# Altium schematic symbol library Schematic_LIb.SchLib: 25 symbols
Pins are listed as number, name and electrical type; pins without a type are passive.

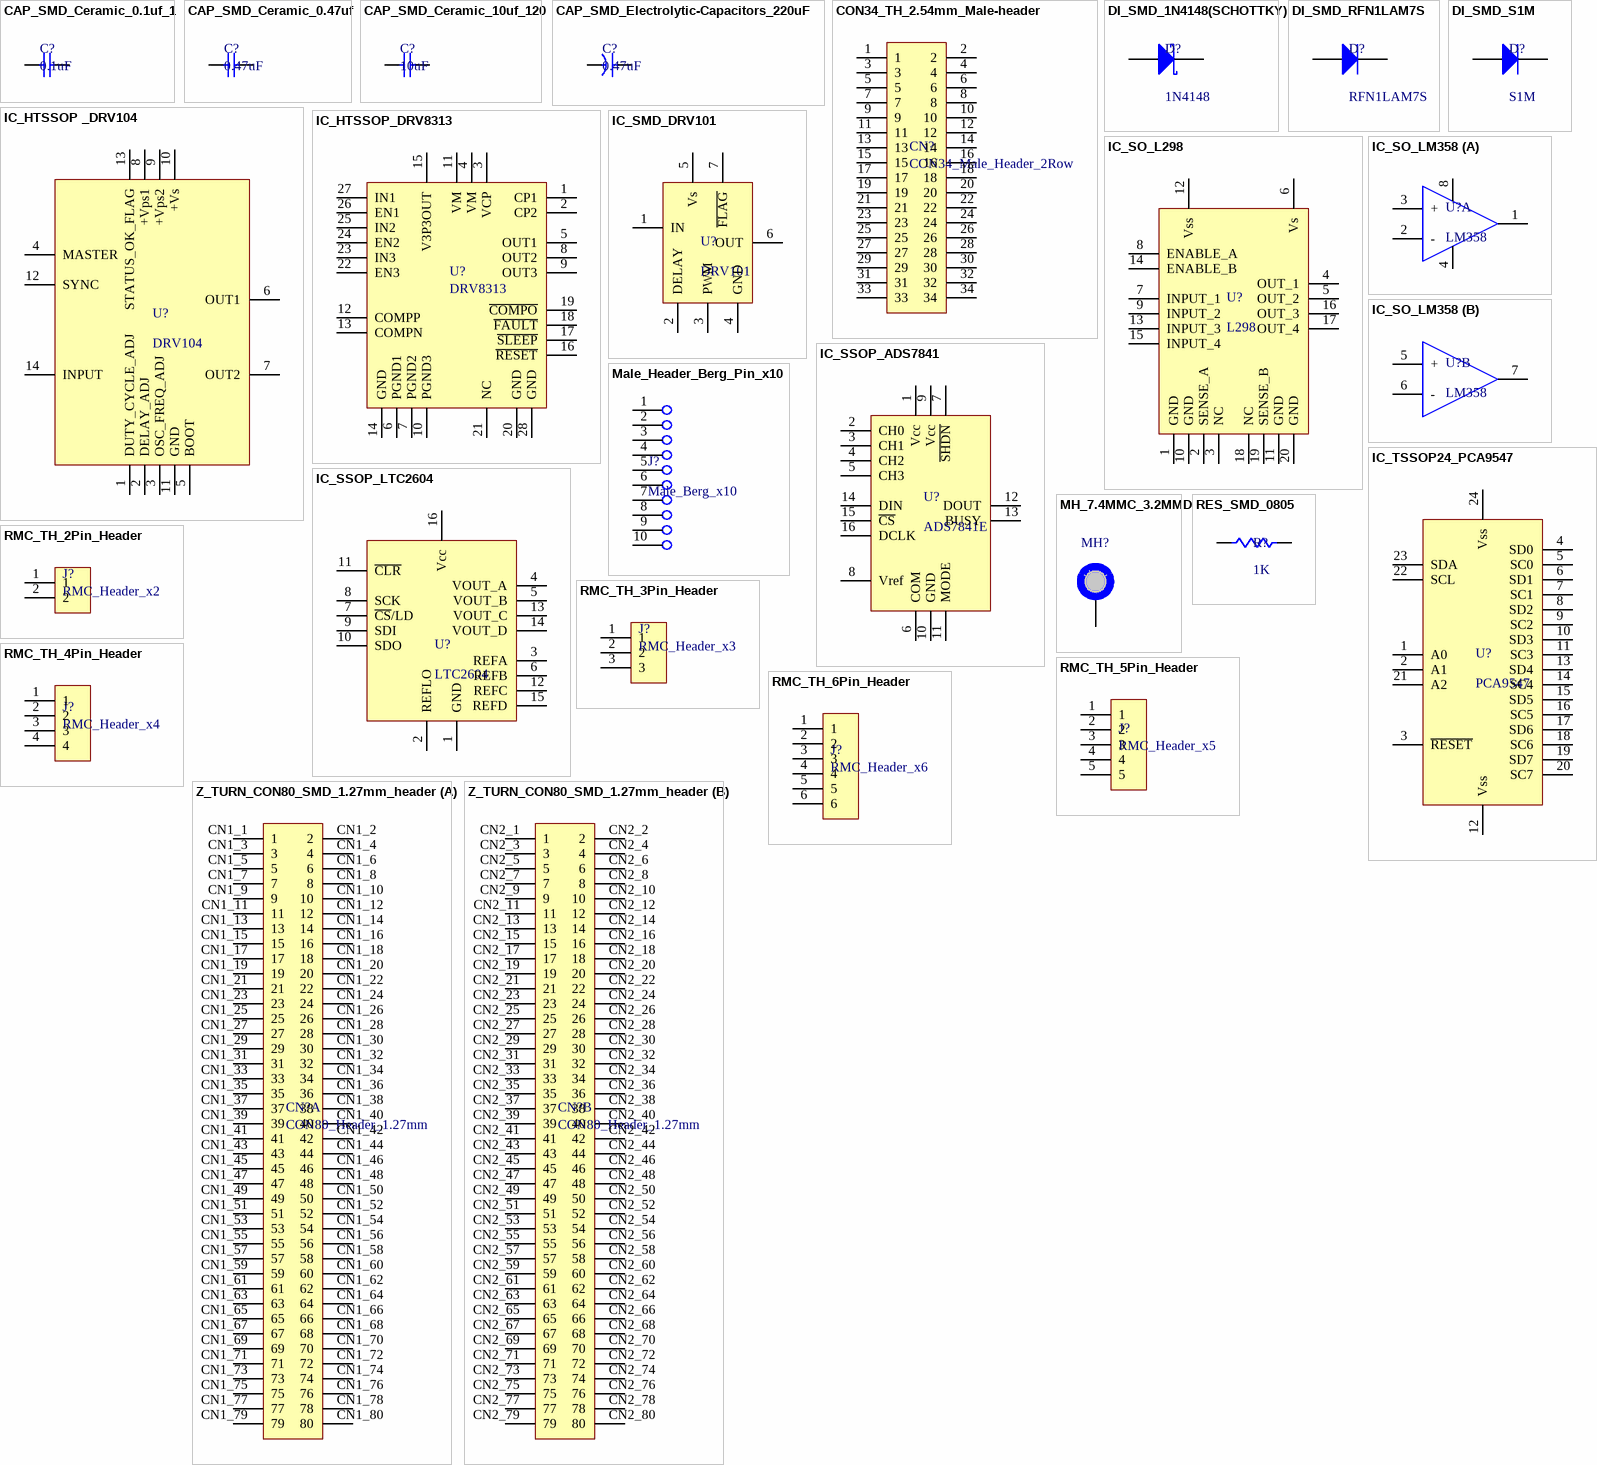
[diagram p0: symbols CAP_SMD_Ceramic_0.1uf_1 to Z_TURN_CON80_SMD_1.27mm_header]

## CAP_SMD_Ceramic_0.1uf_1
designator C?, comment 0.1uF
0.1µF ±20% 6.3V Ceramic Capacitor X5R 0201 (0603 Metric); Manufacturer: Vishay Vitramon; Manufacturer Part Number: VJ0201G104MXYCW1BC; Case / Package: SMD
footprint CAPC_SMD_0603 (Chip Capacitor, 2-Leads, Body 1.60x0.80mm, IPC Low Density)
pins: 1, 2

## CAP_SMD_Ceramic_0.47uf
designator C?, comment 0.47uF
0.47µF ±10% 6.3V Ceramic Capacitor X5R 0201 (0603 Metric); Case / Package: SMD; Manufacturer: *; Manufacturer Part Number: *
footprint CAPC_SMD_0805 (Chip Capacitor, 2-Leads, Body 2.00x1.25mm, IPC Low Density)
pins: 1, 2

## CAP_SMD_Ceramic_10uf_120
designator C?, comment 10uF
10µF ±20% 16V Ceramic Capacitor X5R 1210 (1210 Metric); Manufacturer: KEMET; Manufacturer Part Number: C1206C106K4RACTU; Case / Package: SMD
footprint CAP_SMD_1210 (Chip Capacitor, 2-Leads, Body 3.20x2.50mm, IPC Low Density)
pins: 1, 2

## CAP_SMD_Electrolytic-Capacitors_220uF
designator C?, comment 0.47uF
220µF 35V Aluminum Electrolytic Capacitors Radial, Can - SMD  7000 Hrs @ 105°C; Manufacturer: Nichicon; Manufacturer Part Number: UCW1V221MNL1GS; Case / Package: SMD
footprint CAPEL_SMD_220uF (Aluminum Electrolytic Capacitor, Body 8.30x8.30x10.30mm, IPC Low Density)
pins: 1, 2

## CON34_TH_2.54mm_Male-header
designator CN?, comment CON34_Male_Header_2Row
Connector Header Through Hole 34 position 0.100" (2.54mm); Manufacturer: Amphenol ICC (FCI); Manufacturer Part Number: 67997-234HLF; Case / Package: Through Hole
footprint CON34_TH (43.1mm)
pins: 1, 2, 3, 4, 5, 6, 7, 8, 9, 10, 11, 12, 13, 14, 15, 16, 17, 18, 19, 20, 21, 22, 23, 24, 25, 26, 27, 28, 29, 30, 31, 32, 33, 34

## DI_SMD_1N4148(SCHOTTKY)
designator D?, comment 1N4148
Diode Standard 75V 150mA Surface Mount SOD-323F; Case / Package: Surface Mount; Manufacturer: *; Manufacturer Part Number: *
pins: 1 A, 2 K

## DI_SMD_RFN1LAM7S
designator D?, comment RFN1LAM7S
Diodes - General Purpose, Power, Switching 600V Vr 0.8A Io Fast Recovery Diode; Manufacturer: ROHM Semiconductor; Manufacturer Part Number: RFN1LAM7STR; Case / Package: SMD
footprint DIOM_L3.7mm_W2.5mm_H0.95mm (RFN1LAM7S)
pins: 1 A, 2 K

## DI_SMD_S1M
designator D?, comment S1M
Diode Standard 1000V 1A Surface Mount SMA (DO-214AC); Manufacturer: ON Semiconductor; Case / Package: SMD; Manufacturer Part Number: S1M
footprint S1M_SMD (Molded Diode, 2-Leads, Body 4.38x2.73mm, IPC Low Density)
pins: 1 A, 2 K

## IC_HTSSOP _DRV104
designator U?, comment DRV104
Power Switch/Driver 1:1  1.2A 14-HTSSOP; Manufacturer: Texas Instruments; Manufacturer Part Number: DRV104PWPR; Case / Package: HTSSOP
footprint DRV104_HTSSOP (TSOP, 14-Leads, Body 5.00x4.40mm, Pitch 0.65mm, Thermal Pad 5.00x3.40mm, IPC Low Density)
pins: 1 DUTY_CYCLE_ADJ, 2 DELAY_ADJ, 3 OSC_FREQ_ADJ, 4 MASTER, 5 BOOT, 6 OUT1, 7 OUT2, 8 +Vps1, 9 +Vps2, 10 +Vs, 11 GND, 12 SYNC, 13 STATUS_OK_FLAG, 14 INPUT

## IC_HTSSOP_DRV8313
designator U?, comment DRV8313
Motor Driver Power MOSFET Parallel 28-HTSSOP; Manufacturer: *; Manufacturer Part Number: *; Case / Package: 28-HTSSOP
footprint DRV8313_TO9.7mm4.4mmX1.2mm (TSOP, 28-Leads, Body 9.70x4.40mm, Pitch 0.65mm, Thermal Pad 9.70x3.40mm, IPC Low Density)
pins: 1 CP1, 2 CP2, 3 VCP, 4 VM, 5 OUT1, 6 PGND1, 7 PGND2, 8 OUT2, 9 OUT3, 10 PGND3, 11 VM, 12 COMPP, 13 COMPN, 14 GND, 15 V3P3OUT, 16 ~{RESET}, 17 ~{SLEEP}, 18 ~{FAULT}, 19 ~{COMPO}, 20 GND, 21 NC, 22 EN3, 23 IN3, 24 EN2, 25 IN2, 26 EN1, 27 IN1, 28 GND

## IC_SMD_DRV101
designator U?, comment DRV101
Power Switch/Driver 1:1 Bipolar 1.9A DDPAK/TO-263-7; Manufacturer: Texas Instruments; Manufacturer Part Number: DRV101FKTWT; Case / Package: Surface Mount
footprint DRV101_SMD (D2-PAK, 8-Pads, Body 7.80x8.57mm (max), IPC Medium Density)
pins: 1 IN, 2 DELAY, 3 PWM, 4 GND, 5 Vs, 6 OUT, 7 ~{FLAG}

## IC_SO_L298
designator U?, comment L298
Half Bridge (4) Driver DC Motors, Relays, Solenoids, Stepper Motors Bipolar PowerSO-20; Manufacturer: STMicroelectronics; Manufacturer Part Number: L298P013TR; Case / Package: 20-SOIC
footprint L298N_SOP (SOP, 20-Leads, Body 15.90x11.00mm, Pitch 1.27mm, Thermal Pad 16.00x6.20mm, IPC Medium Density)
pins: 1 GND, 2 SENSE_A, 3 NC, 4 OUT_1, 5 OUT_2, 6 Vs, 7 INPUT_1, 8 ENABLE_A, 9 INPUT_2, 10 GND, 11 GND, 12 Vss, 13 INPUT_3, 14 ENABLE_B, 15 INPUT_4, 16 OUT_3, 17 OUT_4, 18 NC, 19 SENSE_B, 20 GND

## IC_SO_LM358
designator U?, comment LM358
General Purpose Amplifier 2 Circuit  8-SOIC; Manufacturer: Texas Instruments; Manufacuturer Part Number: LM358DR; Case / Package: 8-SOIC
footprint LM358_SO8 (SOP, 8-Leads, Body 4.90x3.90mm, Pitch 1.27mm, IPC Low Density)
part A pins: 1 OutA, 2 -, 3 +, 4 Vee, 8 Vcc
part B pins: 5 +, 6 -, 7 OutB

## IC_SSOP_ADS7841
designator U?, comment ADS7841E
12 Bit Analog to Digital Converter 4 Input 1 SAR 16-SSOP; Manufacturer: Texas Instruments; Manufacturer Part Number: ADS7841E/2K5; Case / Package: SSOP
footprint ADS7841E_SO16
pins: 1 Vcc, 2 CH0, 3 CH1, 4 CH2, 5 CH3, 6 COM, 7 ~{SHDN}, 8 Vref, 9 Vcc, 10 GND, 11 MODE, 12 DOUT, 13 BUSY, 14 DIN, 15 ~{CS}, 16 DCLK

## IC_SSOP_LTC2604
designator U?, comment LTC2604
IC DAC 16BIT V-OUT 16SSOP; Manufacturer: Analog Devices Inc.; Manufacuturer Part Number: LTC2604CGN#PBF; Case / Package: 16-SSOP
footprint LTC2604_SO16 (SOP, 16-Leads, Body 4.89x3.90mm, Pitch 0.64mm, IPC Low Density)
pins: 1 GND, 2 REFLO, 3 REFA, 4 VOUT_A, 5 VOUT_B, 6 REFB, 7 ~{CS}/LD, 8 SCK, 9 SDI, 10 SDO, 11 ~{CLR}, 12 REFC, 13 VOUT_C, 14 VOUT_D, 15 REFD, 16 Vcc

## IC_TSSOP24_PCA9547
designator U?, comment PCA9547
Translating Multiplexer Interface 24-TSSOP; Manufacturer: NXP USA Inc.; Manufacturer Part Number: PCA9547PW,118; Case / Package: TSSOP
footprint PCA9547_SO24 (TSOP, 24-Leads, Body 7.80x4.40mm, Pitch 0.65mm, IPC Medium Density)
pins: 1 A0, 2 A1, 3 ~{RESET}, 4 SD0, 5 SC0, 6 SD1, 7 SC1, 8 SD2, 9 SC2, 10 SD3, 11 SC3, 12 Vss, 13 SD4, 14 SC4, 15 SD5, 16 SC5, 17 SD6, 18 SC6, 19 SD7, 20 SC7, 21 A2, 22 SCL, 23 SDA, 24 Vss

## Male_Header_Berg_Pin_x10
designator J?, comment Male_Berg_x10
Connector Header Through Hole 10 position 0.100" (2.54mm); Manufacturer: Sullins Connector Solutions; Manufacturer Part Number: PRPC010SAAN-RC; Case / Package: Through Hole
footprint MALEBURG_10P_2.54mm (P2.54mm_L25.4mm_W2.54mm_H5.78mm)
pins: 1, 2, 3, 4, 5, 6, 7, 8, 9, 10

## MH_7.4MMC_3.2MMD
designator MH?  (value not drawn)  (no BOM)
Mounting Hole 7.4mm Diameter, 3.2mm Drill
footprint MH_7.4mmPad_3.2mmHole (Mouting Hole, Hole Dia 3.2mm, Pad Dia 7.4mm)
pins: 1

## RES_SMD_0805
designator R?, comment 1K
±1% 0.125W, 1/8W Chip Resistor 0805 (2012 Metric) Moisture Resistant Thick Film; Case / Package: *; Manufacturer: *; Manufacuturer Part Number: *
footprint RES_SMD_0805 (Chip Resistor, 2-Leads, Body 2.00x1.25mm, IPC Low Density)
pins: 1, 2

## RMC_TH_2Pin_Header
designator J?, comment RMC_Header_x2
Connector Header Through Hole 2 position 0.098" (2.50mm); Manufacturer: JST Sales America Inc.; Manufacuturer Part Number: B2B-EH-A(LF)(SN); Case / Package: Through Hole
footprint RMC_MALE_2P_2.54mm (P2.54mm_l7.4mm_W7.4mm_H9.4mm)
pins: 1, 2

## RMC_TH_3Pin_Header
designator J?, comment RMC_Header_x3
Connector Header Through Hole 3 position 0.098" (2.50mm); Manufacturer: JST Sales America Inc.; Manufacuturer Part Number: B2B-EH-A(LF)(SN); Case / Package: Through Hole
footprint RMC_MALE_3P_2.54mm (P2.54mm_L9.94mm_W7.4mm_H9.4mm)
pins: 1, 2, 3

## RMC_TH_4Pin_Header
designator J?, comment RMC_Header_x4
Connector Header Through Hole 4 position 0.098" (2.50mm); Manufacturer: JST Sales America Inc.; Manufacuturer Part Number: B4B-EH-A(LF)(SN); Case / Package: Through Hole
footprint RMC_MALE_4P_2.54mm (P2.54mm_L12.48mm_W7.4mm_H9.4mm)
pins: 1, 2, 3, 4

## RMC_TH_5Pin_Header
designator J?, comment RMC_Header_x5
Connector Header Through Hole 5 position 0.098" (2.50mm); Manufacturer: JST Sales America Inc.; Manufacuturer Part Number: B5B-EH-A(LF)(SN); Case / Package: Through Hole
footprint RMC_MALE_5P_2.54mm (P2.54mm_L15.02mm_W7.4mm_H9.4mm)
pins: 1, 2, 3, 4, 5

## RMC_TH_6Pin_Header
designator J?, comment RMC_Header_x6
Connector Header Through Hole 6 position 0.098" (2.50mm); Manufacturer: JST Sales America Inc.; Case / Package: Through Hole
footprint RMC_MALE_6P_2.54mm (P2.54mm_L15.02mm_W7.4mm_H9.4mm)
pins: 1, 2, 3, 4, 5, 6

## Z_TURN_CON80_SMD_1.27mm_header
designator CN?, comment CON80_Header_1.27mm
Manufacturer: Harwin Inc.; Manufacturer Part Number: M55-7008042R; Case / Package: SMD; Supplier: Digi-Key; Supplier Part No.: 952-3874-1-ND
footprint Z_TURN_BOARD_CON80_SMD_1.27mm (Pitch 1.27mm)
part A pins: CN1_1 1, CN1_2 2, CN1_3 3, CN1_4 4, CN1_5 5, CN1_6 6, CN1_7 7, CN1_8 8, CN1_9 9, CN1_10 10, CN1_11 11, CN1_12 12, CN1_13 13, CN1_14 14, CN1_15 15, CN1_16 16, CN1_17 17, CN1_18 18, CN1_19 19, CN1_20 20, CN1_21 21, CN1_22 22, CN1_23 23, CN1_24 24, CN1_25 25, CN1_26 26, CN1_27 27, CN1_28 28, CN1_29 29, CN1_30 30, CN1_31 31, CN1_32 32, CN1_33 33, CN1_34 34, CN1_35 35, CN1_36 36, CN1_37 37, CN1_38 38, CN1_39 39, CN1_40 40, CN1_41 41, CN1_42 42, CN1_43 43, CN1_44 44, CN1_45 45, CN1_46 46, CN1_47 47, CN1_48 48, CN1_49 49, CN1_50 50, CN1_51 51, CN1_52 52, CN1_53 53, CN1_54 54, CN1_55 55, CN1_56 56, CN1_57 57, CN1_58 58, CN1_59 59, CN1_60 60, CN1_61 61, CN1_62 62, CN1_63 63, CN1_64 64, CN1_65 65, CN1_66 66, CN1_67 67, CN1_68 68, CN1_69 69, CN1_70 70, CN1_71 71, CN1_72 72, CN1_73 73, CN1_74 74, CN1_75 75, CN1_76 76, CN1_77 77, CN1_78 78, CN1_79 79, CN1_80 80
part B pins: CN2_1 1, CN2_2 2, CN2_3 3, CN2_4 4, CN2_5 5, CN2_6 6, CN2_7 7, CN2_8 8, CN2_9 9, CN2_10 10, CN2_11 11, CN2_12 12, CN2_13 13, CN2_14 14, CN2_15 15, CN2_16 16, CN2_17 17, CN2_18 18, CN2_19 19, CN2_20 20, CN2_21 21, CN2_22 22, CN2_23 23, CN2_24 24, CN2_25 25, CN2_26 26, CN2_27 27, CN2_28 28, CN2_29 29, CN2_30 30, CN2_31 31, CN2_32 32, CN2_33 33, CN2_34 34, CN2_35 35, CN2_36 36, CN2_37 37, CN2_38 38, CN2_39 39, CN2_40 40, CN2_41 41, CN2_42 42, CN2_43 43, CN2_44 44, CN2_45 45, CN2_46 46, CN2_47 47, CN2_48 48, CN2_49 49, CN2_50 50, CN2_51 51, CN2_52 52, CN2_53 53, CN2_54 54, CN2_55 55, CN2_56 56, CN2_57 57, CN2_58 58, CN2_59 59, CN2_60 60, CN2_61 61, CN2_62 62, CN2_63 63, CN2_64 64, CN2_65 65, CN2_66 66, CN2_67 67, CN2_68 68, CN2_69 69, CN2_70 70, CN2_71 71, CN2_72 72, CN2_73 73, CN2_74 74, CN2_75 75, CN2_76 76, CN2_77 77, CN2_78 78, CN2_79 79, CN2_80 80